# EAGLE library part BM04B-GHS-TBT(LF)(SN)(N) (library ruark2)
JST GH Connector Header Surface Mount 4 position pin 0.049" (1.25mm)
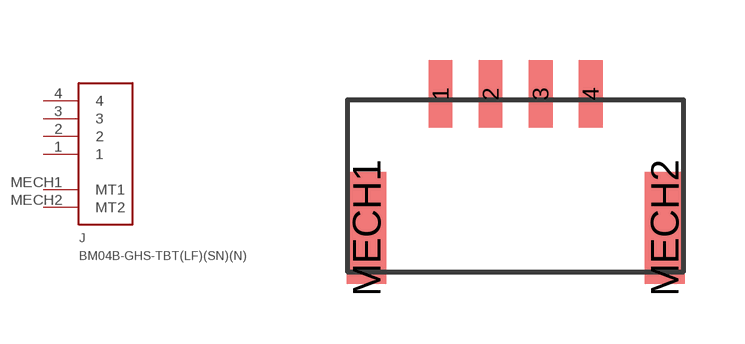
[diagram p143: symbol with the pads of BM04B-GHS-TBT(LF)(SN)(N); footprint BM04B-GHS-TBT(LF)(SN)(N)]

Designator prefix J

## BM04B-GHS-TBT(LF)(SN)(N) (PARTNO: 455-1580-1-ND)  [BM04B-GHS-TBT(LF)(SN)(N)]
1  1
2  2
3  3
4  4
MECH1  MT1
MECH2  MT2

## Footprint BM04B-GHS-TBT(LF)(SN)(N) (pad centres in mm)
smd 0.6 x 1.7: 1 -1.875,4.75; 2 -0.625,4.75; 3 0.625,4.75; 4 1.875,4.75
smd 1 x 2.8: MECH1 -3.725,1.4; MECH2 3.725,1.4